# Altium schematic symbol library SCH - MCU - STM32 - ST MICROELECTRONICS STM32L471R(E-G)TX LQFP64.SchLib: 1 symbol
Pins are listed as number, name and electrical type; pins without a type are passive.

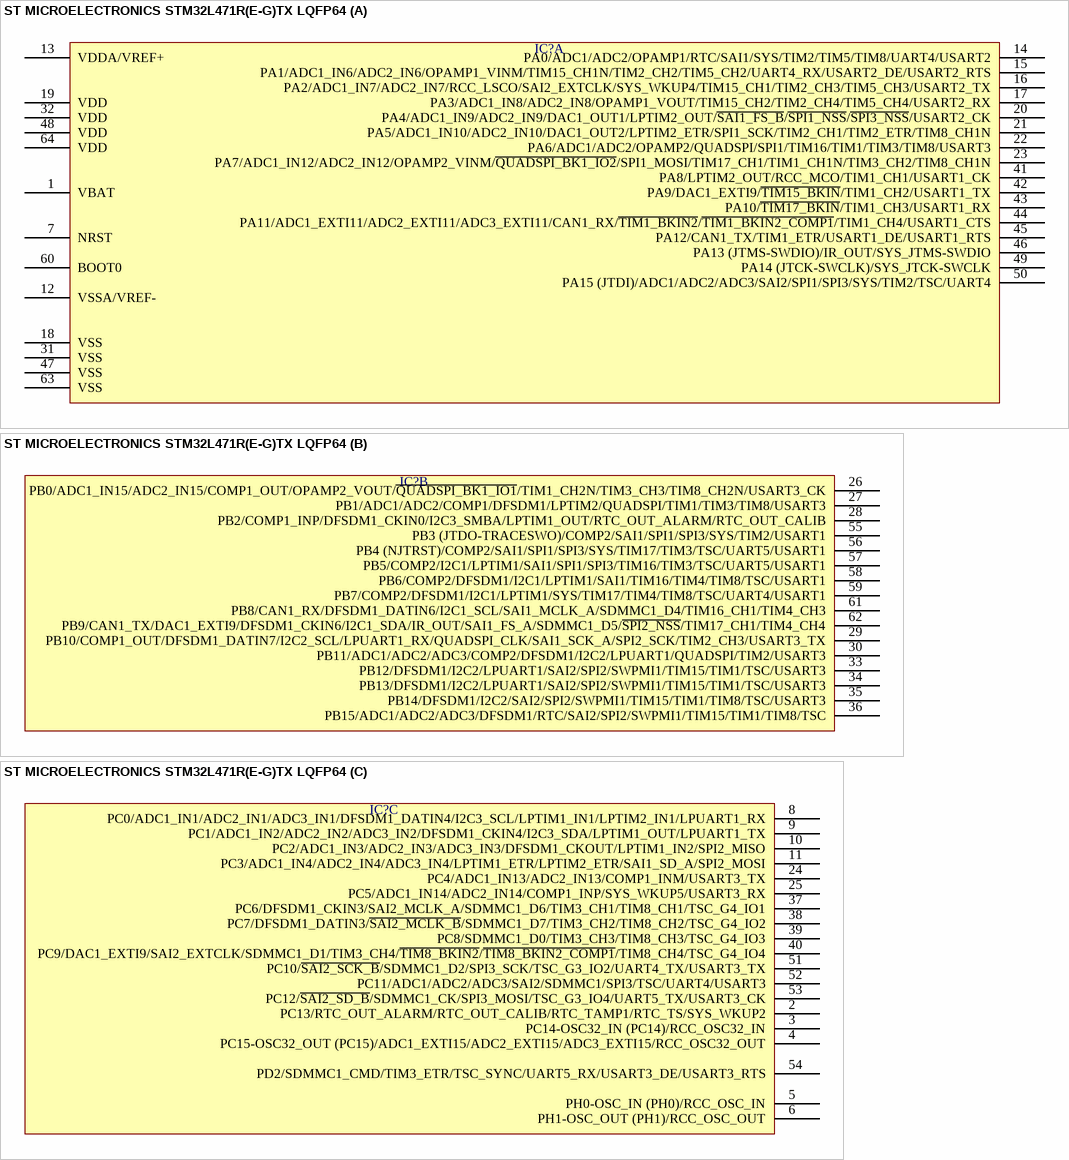
[diagram p0: symbol ST MICROELECTRONICS STM32L471R(E-G)TX LQFP64]

## ST MICROELECTRONICS STM32L471R(E-G)TX LQFP64
designator IC?  (value not drawn)
part A pins: 1 VBAT, 7 NRST, 12 VSSA/VREF-, 13 VDDA/VREF+, 14 PA0/ADC1/ADC2/OPAMP1/RTC/SAI1/SYS/TIM2/TIM5/TIM8/UART4/USART2, 15 PA1/ADC1_IN6/ADC2_IN6/OPAMP1_VINM/TIM15_CH1N/TIM2_CH2/TIM5_CH2/UART4_RX/USART2_DE/USART2_RTS, 16 PA2/ADC1_IN7/ADC2_IN7/RCC_LSCO/SAI2_EXTCLK/SYS_WKUP4/TIM15_CH1/TIM2_CH3/TIM5_CH3/USART2_TX, 17 PA3/ADC1_IN8/ADC2_IN8/OPAMP1_VOUT/TIM15_CH2/TIM2_CH4/TIM5_CH4/USART2_RX, 18 VSS, 19 VDD, 20 PA4/ADC1_IN9/ADC2_IN9/DAC1_OUT1/LPTIM2_OUT/~{SAI1_FS_B}/~{SPI1_NSS}/~{SPI3_NSS}/USART2_CK, 21 PA5/ADC1_IN10/ADC2_IN10/DAC1_OUT2/LPTIM2_ETR/SPI1_SCK/TIM2_CH1/TIM2_ETR/TIM8_CH1N, 22 PA6/ADC1/ADC2/OPAMP2/QUADSPI/SPI1/TIM16/TIM1/TIM3/TIM8/USART3, 23 PA7/ADC1_IN12/ADC2_IN12/OPAMP2_VINM/~{QUADSPI_BK1_IO2}/SPI1_MOSI/TIM17_CH1/TIM1_CH1N/TIM3_CH2/TIM8_CH1N, 31 VSS, 32 VDD, 41 PA8/LPTIM2_OUT/RCC_MCO/TIM1_CH1/USART1_CK, 42 PA9/DAC1_EXTI9/~{TIM15_BKIN}/TIM1_CH2/USART1_TX, 43 PA10/~{TIM17_BKIN}/TIM1_CH3/USART1_RX, 44 PA11/ADC1_EXTI11/ADC2_EXTI11/ADC3_EXTI11/CAN1_RX/~{TIM1_BKIN2}/~{TIM1_BKIN2_COMP1}/TIM1_CH4/USART1_CTS, 45 PA12/CAN1_TX/TIM1_ETR/USART1_DE/USART1_RTS, 46 PA13 (JTMS-SWDIO)/IR_OUT/SYS_JTMS-SWDIO, 47 VSS, 48 VDD, 49 PA14 (JTCK-SWCLK)/SYS_JTCK-SWCLK, 50 PA15 (JTDI)/ADC1/ADC2/ADC3/SAI2/SPI1/SPI3/SYS/TIM2/TSC/UART4, 60 BOOT0, 63 VSS, 64 VDD
part B pins: 26 PB0/ADC1_IN15/ADC2_IN15/COMP1_OUT/OPAMP2_VOUT/~{QUADSPI_BK1_IO1}/TIM1_CH2N/TIM3_CH3/TIM8_CH2N/USART3_CK, 27 PB1/ADC1/ADC2/COMP1/DFSDM1/LPTIM2/QUADSPI/TIM1/TIM3/TIM8/USART3, 28 PB2/COMP1_INP/DFSDM1_CKIN0/I2C3_SMBA/LPTIM1_OUT/RTC_OUT_ALARM/RTC_OUT_CALIB, 29 PB10/COMP1_OUT/DFSDM1_DATIN7/I2C2_SCL/LPUART1_RX/QUADSPI_CLK/SAI1_SCK_A/SPI2_SCK/TIM2_CH3/USART3_TX, 30 PB11/ADC1/ADC2/ADC3/COMP2/DFSDM1/I2C2/LPUART1/QUADSPI/TIM2/USART3, 33 PB12/DFSDM1/I2C2/LPUART1/SAI2/SPI2/SWPMI1/TIM15/TIM1/TSC/USART3, 34 PB13/DFSDM1/I2C2/LPUART1/SAI2/SPI2/SWPMI1/TIM15/TIM1/TSC/USART3, 35 PB14/DFSDM1/I2C2/SAI2/SPI2/SWPMI1/TIM15/TIM1/TIM8/TSC/USART3, 36 PB15/ADC1/ADC2/ADC3/DFSDM1/RTC/SAI2/SPI2/SWPMI1/TIM15/TIM1/TIM8/TSC, 55 PB3 (JTDO-TRACESWO)/COMP2/SAI1/SPI1/SPI3/SYS/TIM2/USART1, 56 PB4 (NJTRST)/COMP2/SAI1/SPI1/SPI3/SYS/TIM17/TIM3/TSC/UART5/USART1, 57 PB5/COMP2/I2C1/LPTIM1/SAI1/SPI1/SPI3/TIM16/TIM3/TSC/UART5/USART1, 58 PB6/COMP2/DFSDM1/I2C1/LPTIM1/SAI1/TIM16/TIM4/TIM8/TSC/USART1, 59 PB7/COMP2/DFSDM1/I2C1/LPTIM1/SYS/TIM17/TIM4/TIM8/TSC/UART4/USART1, 61 PB8/CAN1_RX/DFSDM1_DATIN6/I2C1_SCL/SAI1_MCLK_A/SDMMC1_D4/TIM16_CH1/TIM4_CH3, 62 PB9/CAN1_TX/DAC1_EXTI9/DFSDM1_CKIN6/I2C1_SDA/IR_OUT/SAI1_FS_A/SDMMC1_D5/~{SPI2_NSS}/TIM17_CH1/TIM4_CH4
part C pins: 2 PC13/RTC_OUT_ALARM/RTC_OUT_CALIB/RTC_TAMP1/RTC_TS/SYS_WKUP2, 3 PC14-OSC32_IN (PC14)/RCC_OSC32_IN, 4 PC15-OSC32_OUT (PC15)/ADC1_EXTI15/ADC2_EXTI15/ADC3_EXTI15/RCC_OSC32_OUT, 5 PH0-OSC_IN (PH0)/RCC_OSC_IN, 6 PH1-OSC_OUT (PH1)/RCC_OSC_OUT, 8 PC0/ADC1_IN1/ADC2_IN1/ADC3_IN1/DFSDM1_DATIN4/I2C3_SCL/LPTIM1_IN1/LPTIM2_IN1/LPUART1_RX, 9 PC1/ADC1_IN2/ADC2_IN2/ADC3_IN2/DFSDM1_CKIN4/I2C3_SDA/LPTIM1_OUT/LPUART1_TX, 10 PC2/ADC1_IN3/ADC2_IN3/ADC3_IN3/DFSDM1_CKOUT/LPTIM1_IN2/SPI2_MISO, 11 PC3/ADC1_IN4/ADC2_IN4/ADC3_IN4/LPTIM1_ETR/LPTIM2_ETR/SAI1_SD_A/SPI2_MOSI, 24 PC4/ADC1_IN13/ADC2_IN13/COMP1_INM/USART3_TX, 25 PC5/ADC1_IN14/ADC2_IN14/COMP1_INP/SYS_WKUP5/USART3_RX, 37 PC6/DFSDM1_CKIN3/SAI2_MCLK_A/SDMMC1_D6/TIM3_CH1/TIM8_CH1/TSC_G4_IO1, 38 PC7/DFSDM1_DATIN3/~{SAI2_MCLK_B}/SDMMC1_D7/TIM3_CH2/TIM8_CH2/TSC_G4_IO2, 39 PC8/SDMMC1_D0/TIM3_CH3/TIM8_CH3/TSC_G4_IO3, 40 PC9/DAC1_EXTI9/SAI2_EXTCLK/SDMMC1_D1/TIM3_CH4/~{TIM8_BKIN2}/~{TIM8_BKIN2_COMP1}/TIM8_CH4/TSC_G4_IO4, 51 PC10/~{SAI2_SCK_B}/SDMMC1_D2/SPI3_SCK/TSC_G3_IO2/UART4_TX/USART3_TX, 52 PC11/ADC1/ADC2/ADC3/SAI2/SDMMC1/SPI3/TSC/UART4/USART3, 53 PC12/~{SAI2_SD_B}/SDMMC1_CK/SPI3_MOSI/TSC_G3_IO4/UART5_TX/USART3_CK, 54 PD2/SDMMC1_CMD/TIM3_ETR/TSC_SYNC/UART5_RX/USART3_DE/USART3_RTS